# EAGLE library part ESP32-S2-SOLO (library Harrington-ICs v35)
ESP32-S2-SOLO Expressif
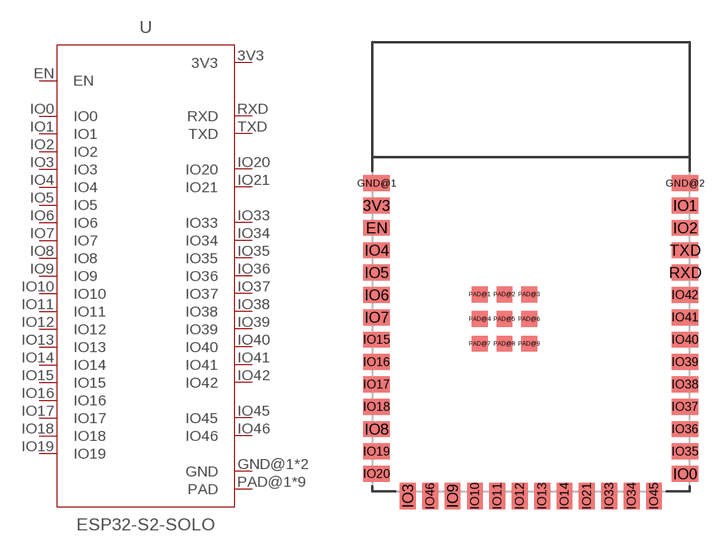
[diagram p9: symbol with the pads of ESP32-S2-SOLO; footprint ESP32-S2-SOLO]

Designator prefix U

## ESP32-S2-SOLO  [ESP32-S2-SOLO]
3V3  3V3  pwr
EN  EN  in
GND@1  GND  pwr
GND@2  GND  pwr
IO0  IO0
IO1  IO1
IO2  IO2
IO3  IO3
IO4  IO4
IO5  IO5
IO6  IO6
IO7  IO7
IO8  IO8
IO9  IO9
IO10  IO10
IO11  IO11
IO12  IO12
IO13  IO13
IO14  IO14
IO15  IO15
IO16  IO16
IO17  IO17
IO18  IO18
IO19  IO19
IO20  IO20
IO21  IO21
IO33  IO33
IO34  IO34
IO35  IO35
IO36  IO36
IO37  IO37
IO38  IO38
IO39  IO39
IO40  IO40
IO41  IO41
IO42  IO42
IO45  IO45
IO46  IO46  in
PAD@1  PAD  pwr
PAD@2  PAD  pwr
PAD@3  PAD  pwr
PAD@4  PAD  pwr
PAD@5  PAD  pwr
PAD@6  PAD  pwr
PAD@7  PAD  pwr
PAD@8  PAD  pwr
PAD@9  PAD  pwr
RXD  RXD
TXD  TXD

## Footprint ESP32-S2-SOLO (pad centres in mm)
smd 1.5 x 0.9: 3V3 -8.75,16.74; EN -8.75,15.47; GND@1 -8.75,18.01; GND@2 8.75,18.01; IO0 8.75,1.5; IO1 8.75,16.74; IO2 8.75,15.47; IO4 -8.75,14.2; IO5 -8.75,12.93; IO6 -8.75,11.66; IO7 -8.75,10.39; IO8 -8.75,4.04; IO15 -8.75,9.12; IO16 -8.75,7.85; IO17 -8.75,6.58; IO18 -8.75,5.31; IO19 -8.75,2.77; IO20 -8.75,1.5; IO35 8.75,2.77; IO36 8.75,4.04; IO37 8.75,5.31; IO38 8.75,6.58; IO39 8.75,7.85; IO40 8.75,9.12; IO41 8.75,10.39; IO42 8.75,11.66; RXD 8.75,12.93; TXD 8.75,14.2
smd 0.9 x 1.5: IO3 -6.985,0.25; IO9 -4.445,0.25; IO10 -3.175,0.25; IO11 -1.905,0.25; IO12 -0.635,0.25; IO13 0.635,0.25; IO14 1.905,0.25; IO21 3.175,0.25; IO33 4.445,0.25; IO34 5.715,0.25; IO45 6.985,0.25; IO46 -5.715,0.25
smd 0.9 x 0.9: PAD@1 -2.9,11.69; PAD@2 -1.5,11.69; PAD@3 -0.1,11.69; PAD@4 -2.9,10.29; PAD@5 -1.5,10.29; PAD@6 -0.1,10.29; PAD@7 -2.9,8.89; PAD@8 -1.5,8.89; PAD@9 -0.1,8.89